# EAGLE library part 6180XX233721_618009233721 (library WR-DSUB)
WR-DSUB 10.30 mm Male Angled PCB Connector w/o Hex Screw Kind Properties Quality Class:3 as per CECC 75 301-802 Gender:Male Type:Angled Insulator Material:PBT Insulator Flammability Rating:UL94 V-0 Color:Black Contact Material:Copper Alloy Contact Plating:Selective Gold Contact Type:Stamped Shielding Material:Steel Shielding Plating:Nickel General Information Operating Temperature:-55 up to +105 °C Compliance:RoHS Electrical Properties IR1:3 A Working Voltage:125 V (AC) Withstanding Voltage:1000 V (AC) Contact Resistance:30 mΩ <https://www.we-online.com/catalog/media/o60857v209%20Family_I-O_DSUB_PCB_Male_wo-screw_6180xx233721_pf2.jpg> Details see: https://www.we-online.com/catalog/en/DSUB_MALE_ANGLED_PCB_CONNECTOR_W_O_HEX_SCREW_10_30MM_6180XX233721/ Updated by Yingchun, Shan 2020-01-09 2020 (C) Würth Elektronik
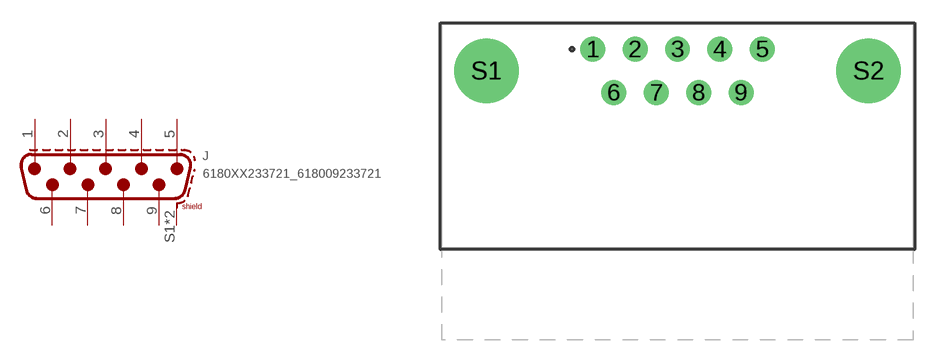
[diagram p18: symbol with the pads of 618009233721; footprint 618009233721]

Designator prefix J

## 6180XX233721_618009233721 (DATASHEET-URL: https://www.we-online.com/redexpert/spec/618009233721?ae; GENDER: Male; PART-NUMBER: 618009233721; PINS: 9; TYPE: Angled; VALUE: 618009233721; WE-NUMBER: 618009233721; WORKING-VOLTAGE: 125 V(AC))  [618009233721]
1  1
2  2
3  3
4  4
5  5
6  6
7  7
8  8
9  9
S1  SHIELD
S2  SHIELD

## Footprint 618009233721 (pad centres in mm)
WR-DSUB 10.3mm Male Angled PCB Connector without Hex Screw, 9 pins
drill 1.09: 1 -5.54,8.715; 2 -2.77,8.715; 3 0,8.715; 4 2.77,8.715; 5 5.54,8.715; 6 -4.155,5.875; 7 -1.385,5.875; 8 1.385,5.875; 9 4.155,5.875
drill 3.2: S1 -12.495,7.295; S2 12.495,7.295